# EAGLE library part XQ-02A (library NA-2025)
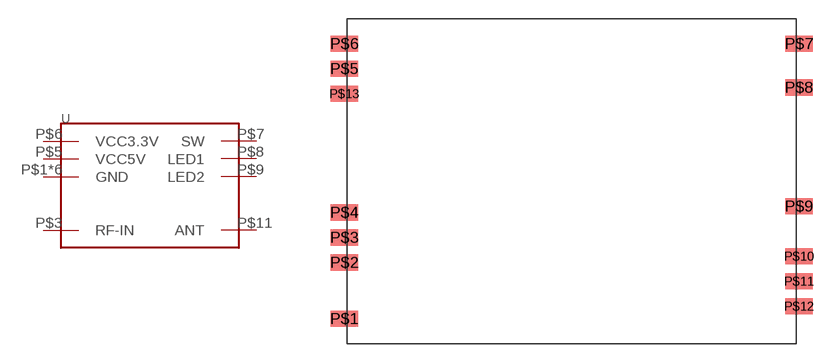
[diagram p37: symbol with the pads of XQ-02A; footprint XQ-02A]

Designator prefix -

## XQ-02A  [XQ-02A]
P$1  GND
P$2  GND
P$3  RF-IN
P$4  GND
P$5  VCC5V
P$6  VCC3.3V
P$7  SW
P$8  LED1
P$9  LED2
P$10  GND
P$11  ANT
P$12  GND
P$13  GND

## Footprint XQ-02A (pad centres in mm)
smd 2.2 x 1.3: P$1 -18.2,-11; P$2 -18.2,-6.5; P$3 -18.2,-4.5; P$4 -18.2,-2.5; P$5 -18.2,9; P$6 -18.2,11; P$7 18.2,11; P$8 18.2,7.5; P$9 18.2,-2; P$10 18.2,-6; P$11 18.2,-8; P$12 18.2,-10; P$13 -18.2,7